# EAGLE library part DAC8562 (library LAB-PLR5010D)
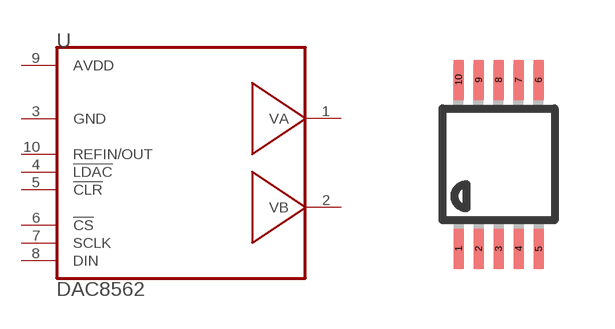
[diagram p0: symbol with the pads of MSOP10; footprint MSOP10]

Designator prefix -

## DAC8562  [MSOP10]
1  VA  out
2  VB  out
3  GND  pwr
4  !LDAC  out
5  !CLR  out
6  !CS  in
7  SCLK  in
8  DIN  in
9  AVDD  pwr
10  REFIN/OUT

## Footprint MSOP10 (pad centres in mm)
10-Lead Mini Small Outline Package [MSOP] (RM-10) Source: http://www.analog.com/UploadedFiles/Data_Sheets/35641221898805SSM2167_b.pdf COMPLIANT TO JEDEC STANDARDS MO-187BA
smd 0.25 x 1: 1 -1,-2.113; 2 -0.5,-2.113; 3 0,-2.113; 4 0.5,-2.113; 5 1,-2.113; 6 1,2.113; 7 0.5,2.113; 8 0,2.113; 9 -0.5,2.113; 10 -1,2.113